# EAGLE library part NCP5623B (library GRITSBot)
Triple Output I2C Controlled RGB LED Driver The NCP5623B mixed analog circuit is a triple output LED driver dedicated to the RGB illumination or backlight LCD display. The built − in DC/DC converter is based on a high efficient charge pump structure with operating mode 1x and 2x. It provides a 94% peak efficiency. The tiny package makes the device suitable for room limited portable applications. See: http://www.onsemi.com/pub_link/Collateral/NCP5623B-D.PDF
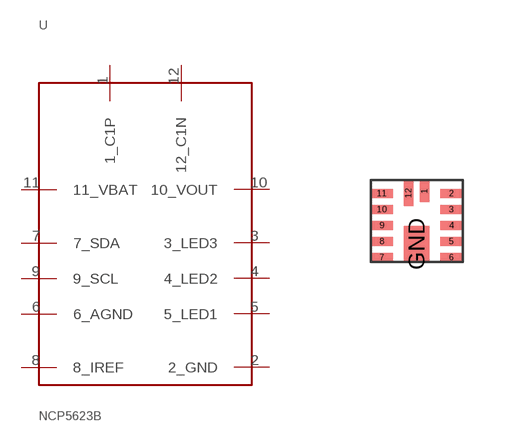
[diagram p16: symbol with the pads of NCP5623B; footprint NCP5623B]

Designator prefix -

## NCP5623B  [NCP5623B]
1  1_C1P
2  2_GND
3  3_LED3
4  4_LED2
5  5_LED1
6  6_AGND
7  7_SDA
8  8_IREF
9  9_SCL
10  10_VOUT
11  11_VBAT
12  12_C1N

## Footprint NCP5623B (pad centres in mm)
smd 0.23 x 0.56: 1 0.22,0.715
smd 0.56 x 0.23: 2 0.89,0.65; 3 0.89,0.25; 4 0.89,-0.15; 5 0.89,-0.55; 6 0.89,-0.95; 7 -0.85,-0.95; 8 -0.85,-0.55; 9 -0.85,-0.15; 10 -0.85,0.25; 11 -0.85,0.65
smd 0.23 x 0.66: 12 -0.18,0.665
smd 0.63 x 0.91: GND 0.02,-0.61